# Altium footprint library TH Diodes.PcbLib: 1 footprints
Each footprint in its own frame and in the unit in brackets; x right, y up, seen from the top. Pads: shape width x height; smd on the part's side, far side on the other; paste and mask are expansions set on the pad; w line width, h text height; cw(c..) or ccw(c..) is an arc to the next point about the centre after c.
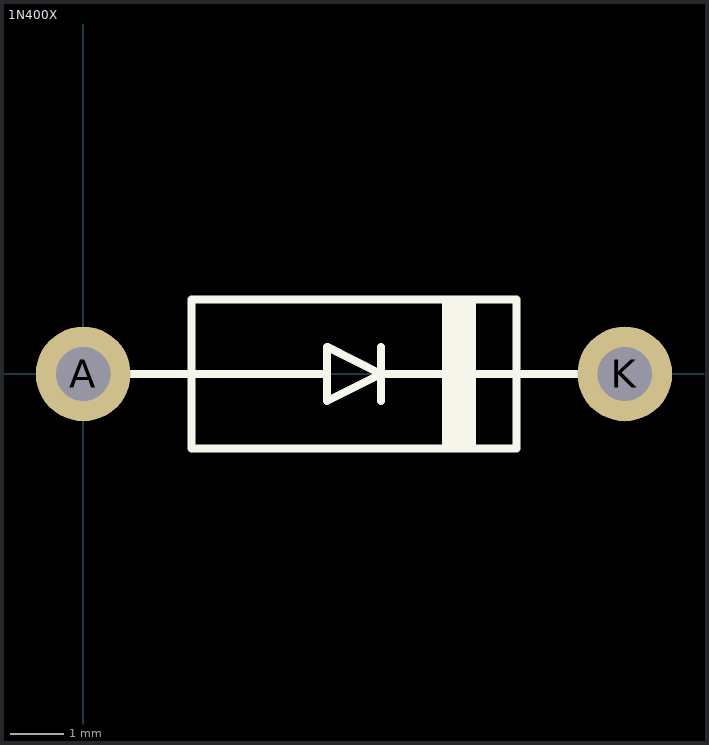
[diagram p0: the footprint, top view; thin cyan lines are the x and y axes]

## 1N400X [mil]
pads (2):
  round 70 hole 40: A(0,0) K(400,0)
Top Overlay:
  rectangle: 264.97,-55.11 289.97,54.89
  lines w6: 60,0 80,0 ; 180,0 80,0 ; 220,-20 220,20 ; 80,0 80,55 320,55 320,0 320,-55 80,-55 80,0 ; 220,0 180,20 180,-20 220,0 ; 220,0 280,0 335,0 ; 335,0 365,0 335,0 ; 35,0 65,0 35,0
3D body: height 60, standoff -100, extent 386.06,-14.94 415.94,15
3D body: height 75, standoff 45, extent 386.08,-14.87 415.92,15
3D body: height 75, standoff 45, extent -14,-14.94 15.84,14.94
3D body: height 60, standoff -100, extent -13.94,-14.94 15.94,15
3D body: height 74.88, standoff 45, extent 0,-15 400,14.94
3D body: height 115.56, standoff 4, extent 254,-55.78 294,56
3D body: height 114.57, standoff 5, extent 79,-54.78 319,55